# Altium schematic symbol library TESEO-LIV3F.SchLib: 1 symbol
Pins are listed as number, name and electrical type; pins without a type are passive.

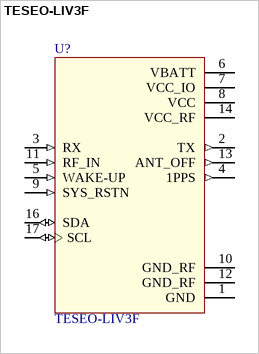
[diagram p0: symbol TESEO-LIV3F]

## TESEO-LIV3F
designator U?
- RF Receiver BeiDou, Galileo, GLONASS, GNSS, GPS 1.575GHz -163dBm 18-LCC _9.7x10.1_; MF: STMicroelectronics; SnapEDA_Link: https://www.snapeda.com/parts/TESEO-LIV3F/STMicroelectronics/view-part/1474256/?ref=snap; Package: SMD-18 STMicroelectronics; MP: TESEO-LIV3F; Price: None; Availability: Unavailable; Value: *
footprint *TESEO-LIV3F
pins: 1 GND (power), 2 TX (out), 3 RX (in), 4 1PPS (out), 5 WAKE-UP (in), 6 VBATT (power), 7 VCC_IO (power), 8 VCC (power), 9 SYS_RSTN (in), 10 GND_RF (power), 11 RF_IN (in), 12 GND_RF (power), 13 ANT_OFF (out), 14 VCC_RF (power), 16 SDA (io), 17 SCL (io)